# EAGLE library part LSF0102DQER (library NullSpaceLabsCom)
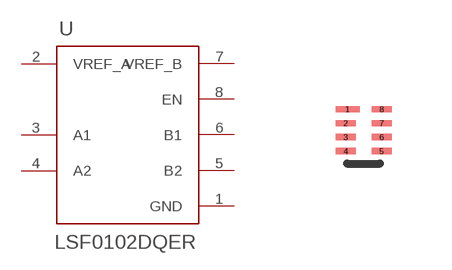
[diagram p1: symbol with the pads of DQE0008A; footprint DQE0008A]

Designator prefix U

## LSF0102DQER  [DQE0008A]
1  GND  pwr
2  VREF_A  pwr
3  A1
4  A2
5  B2
6  B1
7  VREF_B  pwr
8  EN  in

## Footprint DQE0008A (pad centres in mm)
smd 0.6 x 0.16: 1 -0.4,0.525
smd 0.5 x 0.16: 2 -0.45,0.175; 3 -0.45,-0.175; 4 -0.45,-0.525; 5 0.45,-0.525; 6 0.45,-0.175; 7 0.45,0.175; 8 0.45,0.525